# Altium footprint library 615006138421.PcbLib: 1 footprints
Each footprint in its own frame and in the unit in brackets; x right, y up, seen from the top. Pads: shape width x height; smd on the part's side, far side on the other; paste and mask are expansions set on the pad; w line width, h text height; cw(c..) or ccw(c..) is an arc to the next point about the centre after c.
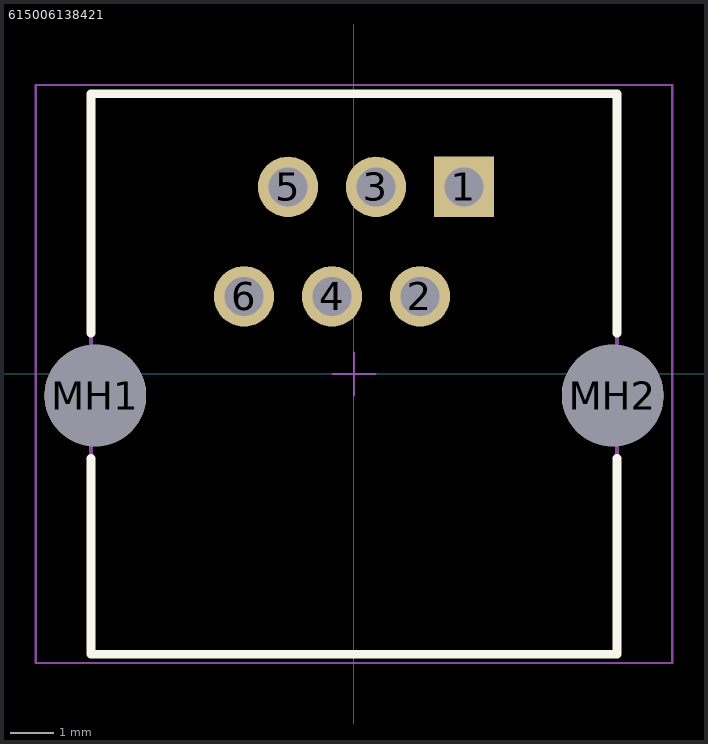
[diagram p0: the footprint, top view; thin cyan lines are the x and y axes]

## 615006138421 [mm] "Modular Jack Horizontal Plastic 6P6C Tab Up"
height 14.5
pads (9):
  rect 1.4x1.4 hole 0.9: 1(2.55,4.34)
  round 1.4 hole 0.9: 2(1.53,1.8) 3(0.51,4.34) 4(-0.51,1.8) 4(-0.51,1.8) 5(-1.53,4.34) 6(-2.55,1.8)
  round 2.36 hole 2.36 unplated: MH1(-6,-0.5) MH2(6,-0.5)
Top Overlay:
  lines w0.2: -6.1,-1.95 -6.1,-6.5 6.1,-6.5 6.1,-1.95 ; -6.1,0.95 -6.1,6.5 6.1,6.5 6.1,0.95
Mechanical 13:
  lines w0.1: -6.1,-6.5 6.1,-6.5 6.1,6.5 -6.1,6.5 -6.1,-6.5
Mechanical 15:
  lines w0.05: -0.5,0 0.5,0 ; 0,-0.5 0,0.5 ; -7.38,-6.7 -7.38,6.7 7.38,6.7 7.38,-6.7 -7.38,-6.7
3D body "615006138421.stp": height 14.55, standoff -3.35, extent -7.2,-6.5 7.2,6.5